# EAGLE library part K553UD2 (library _mtvl_ic.soviet)
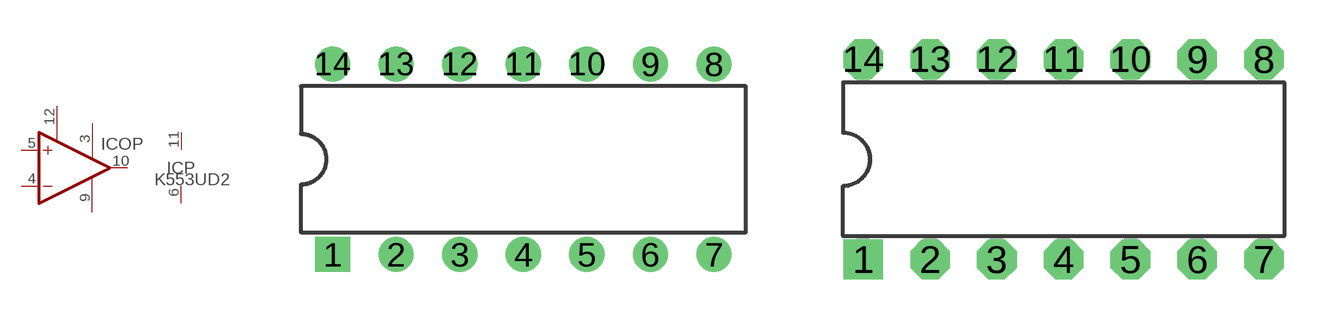
[diagram p12: symbol with the pads of DIL14; footprints DIL14, DIL-14_IMPLANT]

Designator prefix IC; gates OP=K553UD2 P=PWR+-

## K553UD2  [DIL14]
3  OP:COMP  pas
4  OP:IN-  in
5  OP:IN+  in
6  P:V-  pwr
9  OP:BALANCE  pas
10  OP:OUT  out
11  P:V+  pwr
12  OP:COMP/BAL  pas

## K553UD2_IMPLANT  [DIL-14_IMPLANT]
Pads as for DIL14

## Footprint DIL14 (pad centres in mm)
Dual In Line Package
drill 0.9 square: 1 -7.62,-3.81
drill 0.9: 2 -5.08,-3.81; 3 -2.54,-3.81; 4 0,-3.81; 5 2.54,-3.81; 6 5.08,-3.81; 7 7.62,-3.81; 8 7.62,3.81; 9 5.08,3.81; 10 2.54,3.81; 11 0,3.81; 12 -2.54,3.81; 13 -5.08,3.81; 14 -7.62,3.81

## Footprint DIL-14_IMPLANT (pad centres in mm)
drill 1 square: 1 -7.62,-3.81
drill 1 octagon: 2 -5.08,-3.81; 3 -2.54,-3.81; 4 0,-3.81; 5 2.54,-3.81; 6 5.08,-3.81; 7 7.62,-3.81; 8 7.62,3.81; 9 5.08,3.81; 10 2.54,3.81; 11 0,3.81; 12 -2.54,3.81; 13 -5.08,3.81; 14 -7.62,3.81